# Altium schematic symbol library CAP0402.SchLib: 1 symbol
Pins are listed as number, name and electrical type; pins without a type are passive.

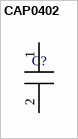
[diagram p0: symbol CAP0402]

## CAP0402
designator C?  (value not drawn)
footprint CAP0402
pins: 1, 2